# EAGLE library part MICS-5524 (library Ai_Sensors)
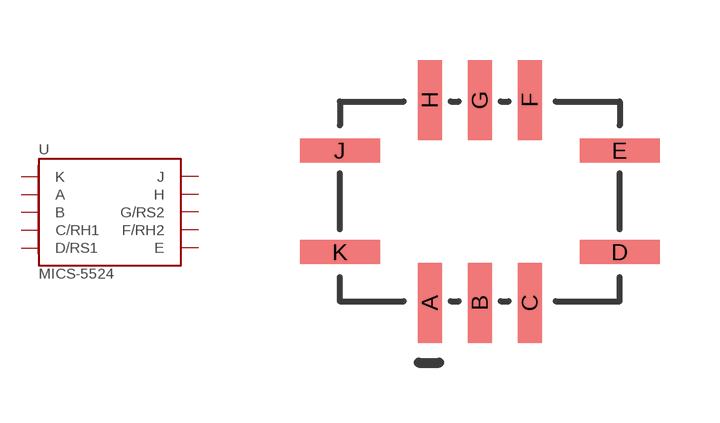
[diagram p2: symbol with the pads of MICS-SMD10; footprint MICS-SMD10]

Designator prefix U

## MICS-5524  [MICS-SMD10]
A  A
B  B
C  C/RH1
D  D/RS1
E  E
F  F/RH2
G  G/RS2
H  H
J  J
K  K

## Footprint MICS-SMD10 (pad centres in mm)
smd 0.6 x 2: A -1.25,-2.54; B 0,-2.54; C 1.25,-2.54; F 1.25,2.54; G 0,2.54; H -1.25,2.54
smd 2 x 0.6: D 3.5,-1.27; E 3.5,1.27; J -3.5,1.27; K -3.5,-1.27